# Altium footprint library RES_7.5_2.8_15.5.PcbLib: 1 footprints
Each footprint in its own frame and in the unit in brackets; x right, y up, seen from the top. Pads: shape width x height; smd on the part's side, far side on the other; paste and mask are expansions set on the pad; w line width, h text height; cw(c..) or ccw(c..) is an arc to the next point about the centre after c.
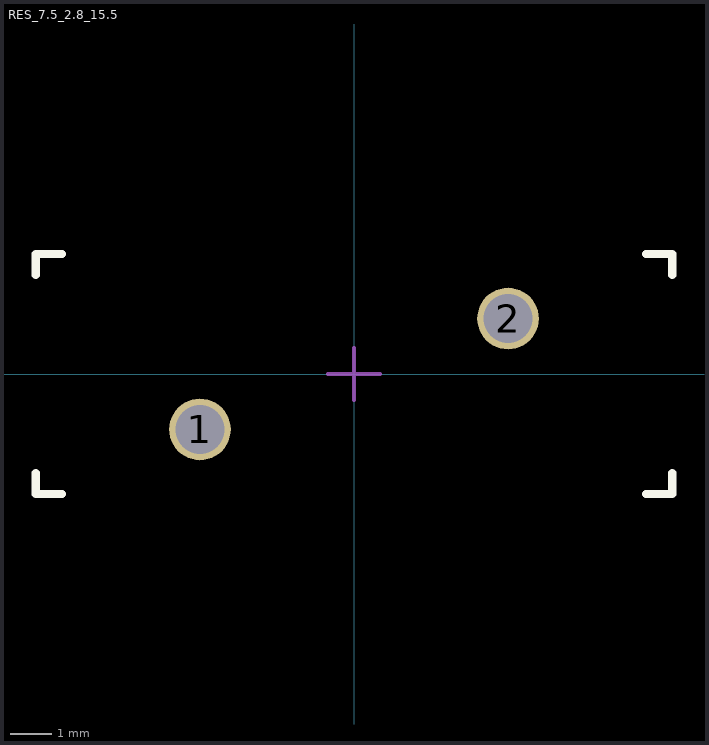
[diagram p0: the footprint, top view; thin cyan lines are the x and y axes]

## RES_7.5_2.8_15.5 [mm]
height 20
pads (2):
  round 1.5 hole 1.2 mask+0.05: 1(-3.75,-1.35) 2(3.75,1.35)
Top Overlay:
  lines w0.2: -7.747,-2.413 -7.747,-2.921 -7.112,-2.921 ; -7.747,2.413 -7.747,2.921 -7.112,2.921 ; 7.112,-2.921 7.747,-2.921 7.747,-2.413 ; 7.112,2.921 7.747,2.921 7.747,2.413
Mechanical 15:
  lines w0.1: -0.635,0 0.635,0 ; 0,-0.635 0,0.635
3D body: height 16.73, standoff -11, extent -7.687,-2.736 7.752,2.664